# Altium integrated library Analog Devices Operational Amplifiers.IntLib: 2102 symbols (part 11 of 70)
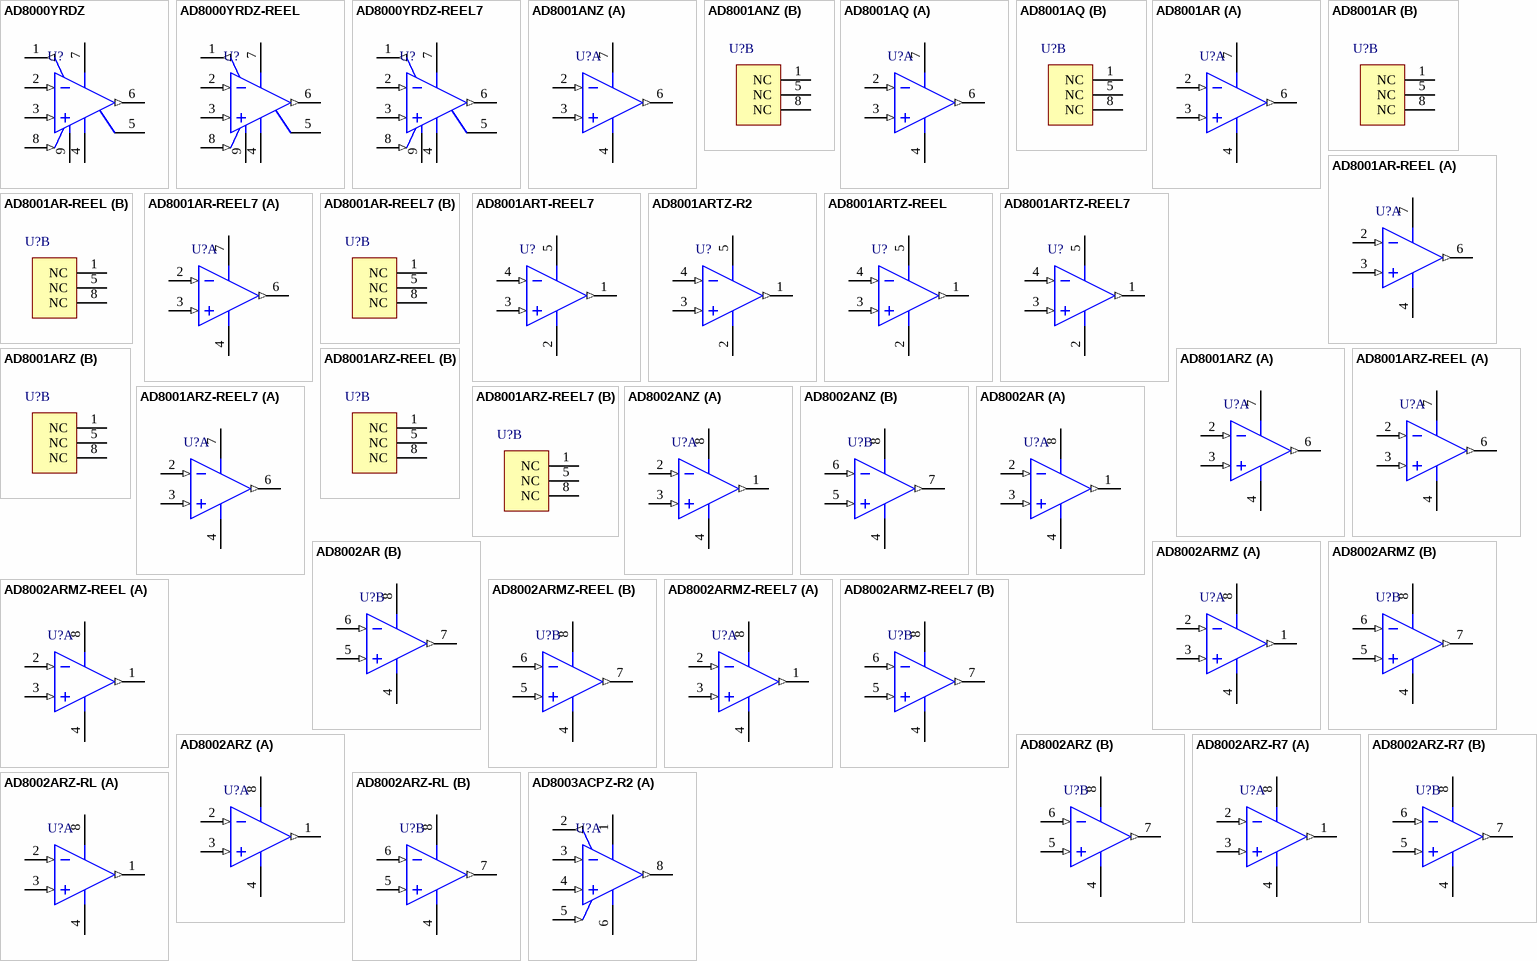
[diagram p124: symbols AD8000YRDZ to AD8003ACPZ-R2]

## AD8002AR
designator U?
Double Channel Low Power Operational Amplifier, 600 MHz BW, 1.2 KV/us SR, Industrial, 8-pin SOIC (R-8), Tube; Generic Part Number: AD8002; Manufacturer: Analog Devices; PartNumber: AD8002AR; Amplifiers Per Package: 2; Input Bias Current: 3uA; Input Offset Voltage: 2mV; Iq/Amp: 11.5mA; Small Signal Bandwidth: 600MHz; V Span Max: 12V; V Span Min: 6V; DatasheetVersion: Rev. D; PackageVersion: 060506-A; PackageReference: R-8; PackageDescription: 8-Pin Standard Small Outline Package, Body 3.9 x 4.9 mm, Pitch 1.27 mm; Supplier 1: Digi-Key; Supplier Part Number 1: AD8002AR-ND; Slew Rate: 1.2KV/us; Mounting Technology: Surface Mount; Code_JEDEC: MS-012-AA; ComponentLink1Description: Manufacturer URL; ComponentLink1URL: http://www.analog.com/en/index.html; ComponentLink2Description: Datasheet; ComponentLink2URL: http://www.analog.com/static/imported-files/data_sheets/AD8002.pdf; ComponentLink3Description: Package Specification; ComponentLink3URL: http://www.analog.com/static/imported-files/packages/PKG_PDF/SOIC_Narrow%20(R)/R_8.pdf
footprint ADI-R-8_N (SOIC, 8-Leads, Body 4.9x3.9mm, Pitch 1.27mm, IPC Medium Density)
footprint ADI-R-8_L (SOIC, 8-Leads, Body 4.9x3.9mm, Pitch 1.27mm, IPC High Density)
footprint ADI-R-8_M (SOIC, 8-Leads, Body 4.9x3.9mm, Pitch 1.27mm, IPC Low Density)
pins on every part: 4 -V (power), 8 +V (power)
part A pins: 1 OUT 1 (out), 2 -IN 1 (in), 3 +IN 1 (in)
part B pins: 5 +IN 2 (in), 6 -IN 2 (in), 7 OUT 2 (out)

## AD8002ARMZ
designator U?
Double Channel Low Power Operational Amplifier, 600 MHz BW, 1.2 KV/us SR, Industrial, 8-pin SOP (RM-8), Tube; Generic Part Number: AD8002; Manufacturer: Analog Devices; PartNumber: AD8002ARMZ; Amplifiers Per Package: 2; Input Bias Current: 3uA; Input Offset Voltage: 2mV; Iq/Amp: 11.5mA; Small Signal Bandwidth: 600MHz; V Span Max: 12V; V Span Min: 6V; DatasheetVersion: Rev. D; PackageReference: RM-8; PackageDescription: 8-Pin Mini Small Outline Package, Body 3 x 3 mm, Pitch 0.65 mm; Supplier 1: Digi-Key; Supplier Part Number 1: AD8002ARMZ-ND; Supplier 2: Newark; Supplier Part Number 2: 59K6140; Slew Rate: 1.2KV/us; Mounting Technology: Surface Mount; Code_JEDEC: MO-187-AA; ComponentLink1Description: Manufacturer URL; ComponentLink1URL: http://www.analog.com/en/index.html; ComponentLink2Description: Datasheet; ComponentLink2URL: http://www.analog.com/static/imported-files/data_sheets/AD8002.pdf; ComponentLink3Description: Package Specification; ComponentLink3URL: http://www.analog.com/static/imported-files/packages/PKG_PDF/MSOP%28RM%29/RM_8.pdf
footprint ADI-RM-8_N (SOP, 8-Leads, Body 3x3mm, Pitch 0.65mm, IPC Medium Density)
footprint ADI-RM-8_L (SOP, 8-Leads, Body 3x3mm, Pitch 0.65mm, IPC High Density)
footprint ADI-RM-8_M (SOP, 8-Leads, Body 3x3mm, Pitch 0.65mm, IPC Low Density)
pins on every part: 4 -V (power), 8 +V (power)
part A pins: 1 OUT 1 (out), 2 -IN 1 (in), 3 +IN 1 (in)
part B pins: 5 +IN 2 (in), 6 -IN 2 (in), 7 OUT 2 (out)

## AD8002ARMZ-REEL
designator U?
Double Channel Low Power Operational Amplifier, 600 MHz BW, 1.2 KV/us SR, Industrial, 8-pin SOP (RM-8), Reel; Generic Part Number: AD8002; Manufacturer: Analog Devices; PartNumber: AD8002ARMZ-REEL; Amplifiers Per Package: 2; Input Bias Current: 3uA; Input Offset Voltage: 2mV; Iq/Amp: 11.5mA; Small Signal Bandwidth: 600MHz; V Span Max: 12V; V Span Min: 6V; DatasheetVersion: Rev. D; PackageReference: RM-8; PackageDescription: 8-Pin Mini Small Outline Package, Body 3 x 3 mm, Pitch 0.65 mm; Supplier 1: Digi-Key; Supplier Part Number 1: AD8002ARMZ-REEL-ND; Supplier 2: Newark; Supplier Part Number 2: 59K6141; Slew Rate: 1.2KV/us; Mounting Technology: Surface Mount; Code_JEDEC: MO-187-AA; ComponentLink1Description: Manufacturer URL; ComponentLink1URL: http://www.analog.com/en/index.html; ComponentLink2Description: Datasheet; ComponentLink2URL: http://www.analog.com/static/imported-files/data_sheets/AD8002.pdf; ComponentLink3Description: Package Specification; ComponentLink3URL: http://www.analog.com/static/imported-files/packages/PKG_PDF/MSOP%28RM%29/RM_8.pdf
footprint ADI-RM-8_N (SOP, 8-Leads, Body 3x3mm, Pitch 0.65mm, IPC Medium Density)
footprint ADI-RM-8_L (SOP, 8-Leads, Body 3x3mm, Pitch 0.65mm, IPC High Density)
footprint ADI-RM-8_M (SOP, 8-Leads, Body 3x3mm, Pitch 0.65mm, IPC Low Density)
pins on every part: 4 -V (power), 8 +V (power)
part A pins: 1 OUT 1 (out), 2 -IN 1 (in), 3 +IN 1 (in)
part B pins: 5 +IN 2 (in), 6 -IN 2 (in), 7 OUT 2 (out)

## AD8002ARMZ-REEL7
designator U?
Double Channel Low Power Operational Amplifier, 600 MHz BW, 1.2 KV/us SR, Industrial, 8-pin SOP (RM-8), Reel; Generic Part Number: AD8002; Manufacturer: Analog Devices; PartNumber: AD8002ARMZ-REEL7; Amplifiers Per Package: 2; Input Bias Current: 3uA; Input Offset Voltage: 2mV; Iq/Amp: 11.5mA; Small Signal Bandwidth: 600MHz; V Span Max: 12V; V Span Min: 6V; DatasheetVersion: Rev. D; PackageReference: RM-8; PackageDescription: 8-Pin Mini Small Outline Package, Body 3 x 3 mm, Pitch 0.65 mm; Supplier 1: Digi-Key; Supplier Part Number 1: AD8002ARMZ-REEL7-ND; Supplier 2: Newark; Supplier Part Number 2: 59K6142; Slew Rate: 1.2KV/us; Mounting Technology: Surface Mount; Code_JEDEC: MO-187-AA; ComponentLink1Description: Manufacturer URL; ComponentLink1URL: http://www.analog.com/en/index.html; ComponentLink2Description: Datasheet; ComponentLink2URL: http://www.analog.com/static/imported-files/data_sheets/AD8002.pdf; ComponentLink3Description: Package Specification; ComponentLink3URL: http://www.analog.com/static/imported-files/packages/PKG_PDF/MSOP%28RM%29/RM_8.pdf
footprint ADI-RM-8_N (SOP, 8-Leads, Body 3x3mm, Pitch 0.65mm, IPC Medium Density)
footprint ADI-RM-8_L (SOP, 8-Leads, Body 3x3mm, Pitch 0.65mm, IPC High Density)
footprint ADI-RM-8_M (SOP, 8-Leads, Body 3x3mm, Pitch 0.65mm, IPC Low Density)
pins on every part: 4 -V (power), 8 +V (power)
part A pins: 1 OUT 1 (out), 2 -IN 1 (in), 3 +IN 1 (in)
part B pins: 5 +IN 2 (in), 6 -IN 2 (in), 7 OUT 2 (out)

## AD8002ARZ
designator U?
Double Channel Low Power Operational Amplifier, 600 MHz BW, 1.2 KV/us SR, Industrial, 8-pin SOIC (R-8), Tube; Generic Part Number: AD8002; Manufacturer: Analog Devices; PartNumber: AD8002ARZ; Amplifiers Per Package: 2; Input Bias Current: 3uA; Input Offset Voltage: 2mV; Iq/Amp: 11.5mA; Small Signal Bandwidth: 600MHz; V Span Max: 12V; V Span Min: 6V; DatasheetVersion: Rev. D; PackageVersion: 060506-A; PackageReference: R-8; PackageDescription: 8-Pin Standard Small Outline Package, Body 3.9 x 4.9 mm, Pitch 1.27 mm; Supplier 1: Digi-Key; Supplier Part Number 1: AD8002ARZ-ND; Supplier 2: Farnell; Supplier Part Number 2: 1814349; Supplier 3: Newark; Supplier Part Number 3: 19M8867; Slew Rate: 1.2KV/us; Mounting Technology: Surface Mount; Code_JEDEC: MS-012-AA; ComponentLink1Description: Manufacturer URL; ComponentLink1URL: http://www.analog.com/en/index.html; ComponentLink2Description: Datasheet; ComponentLink2URL: http://www.analog.com/static/imported-files/data_sheets/AD8002.pdf; ComponentLink3Description: Package Specification; ComponentLink3URL: http://www.analog.com/static/imported-files/packages/PKG_PDF/SOIC_Narrow%20(R)/R_8.pdf
footprint ADI-R-8_N (SOIC, 8-Leads, Body 4.9x3.9mm, Pitch 1.27mm, IPC Medium Density)
footprint ADI-R-8_L (SOIC, 8-Leads, Body 4.9x3.9mm, Pitch 1.27mm, IPC High Density)
footprint ADI-R-8_M (SOIC, 8-Leads, Body 4.9x3.9mm, Pitch 1.27mm, IPC Low Density)
pins on every part: 4 -V (power), 8 +V (power)
part A pins: 1 OUT 1 (out), 2 -IN 1 (in), 3 +IN 1 (in)
part B pins: 5 +IN 2 (in), 6 -IN 2 (in), 7 OUT 2 (out)

## AD8002ARZ-R7
designator U?
Double Channel Low Power Operational Amplifier, 600 MHz BW, 1.2 KV/us SR, Industrial, 8-pin SOIC (R-8), Reel; Generic Part Number: AD8002; Manufacturer: Analog Devices; PartNumber: AD8002ARZ-R7; Amplifiers Per Package: 2; Input Bias Current: 3uA; Input Offset Voltage: 2mV; Iq/Amp: 11.5mA; Small Signal Bandwidth: 600MHz; V Span Max: 12V; V Span Min: 6V; DatasheetVersion: Rev. D; PackageVersion: 060506-A; PackageReference: R-8; PackageDescription: 8-Pin Standard Small Outline Package, Body 3.9 x 4.9 mm, Pitch 1.27 mm; Supplier 1: Digi-Key; Supplier Part Number 1: AD8002ARZ-R7-ND; Supplier 2: Newark; Supplier Part Number 2: 59K6145; Slew Rate: 1.2KV/us; Mounting Technology: Surface Mount; Code_JEDEC: MS-012-AA; ComponentLink1Description: Manufacturer URL; ComponentLink1URL: http://www.analog.com/en/index.html; ComponentLink2Description: Datasheet; ComponentLink2URL: http://www.analog.com/static/imported-files/data_sheets/AD8002.pdf; ComponentLink3Description: Package Specification; ComponentLink3URL: http://www.analog.com/static/imported-files/packages/PKG_PDF/SOIC_Narrow%20(R)/R_8.pdf
footprint ADI-R-8_N (SOIC, 8-Leads, Body 4.9x3.9mm, Pitch 1.27mm, IPC Medium Density)
footprint ADI-R-8_L (SOIC, 8-Leads, Body 4.9x3.9mm, Pitch 1.27mm, IPC High Density)
footprint ADI-R-8_M (SOIC, 8-Leads, Body 4.9x3.9mm, Pitch 1.27mm, IPC Low Density)
pins on every part: 4 -V (power), 8 +V (power)
part A pins: 1 OUT 1 (out), 2 -IN 1 (in), 3 +IN 1 (in)
part B pins: 5 +IN 2 (in), 6 -IN 2 (in), 7 OUT 2 (out)

## AD8002ARZ-RL
designator U?
Double Channel Low Power Operational Amplifier, 600 MHz BW, 1.2 KV/us SR, Industrial, 8-pin SOIC (R-8), Reel; Generic Part Number: AD8002; Manufacturer: Analog Devices; PartNumber: AD8002ARZ-RL; Amplifiers Per Package: 2; Input Bias Current: 3uA; Input Offset Voltage: 2mV; Iq/Amp: 11.5mA; Small Signal Bandwidth: 600MHz; V Span Max: 12V; V Span Min: 6V; DatasheetVersion: Rev. D; PackageVersion: 060506-A; PackageReference: R-8; PackageDescription: 8-Pin Standard Small Outline Package, Body 3.9 x 4.9 mm, Pitch 1.27 mm; Supplier 1: Digi-Key; Supplier Part Number 1: AD8002ARZ-RL-ND; Supplier 2: Newark; Supplier Part Number 2: 59K6144; Slew Rate: 1.2KV/us; Mounting Technology: Surface Mount; Code_JEDEC: MS-012-AA; ComponentLink1Description: Manufacturer URL; ComponentLink1URL: http://www.analog.com/en/index.html; ComponentLink2Description: Datasheet; ComponentLink2URL: http://www.analog.com/static/imported-files/data_sheets/AD8002.pdf; ComponentLink3Description: Package Specification; ComponentLink3URL: http://www.analog.com/static/imported-files/packages/PKG_PDF/SOIC_Narrow%20(R)/R_8.pdf
footprint ADI-R-8_N (SOIC, 8-Leads, Body 4.9x3.9mm, Pitch 1.27mm, IPC Medium Density)
footprint ADI-R-8_L (SOIC, 8-Leads, Body 4.9x3.9mm, Pitch 1.27mm, IPC High Density)
footprint ADI-R-8_M (SOIC, 8-Leads, Body 4.9x3.9mm, Pitch 1.27mm, IPC Low Density)
pins on every part: 4 -V (power), 8 +V (power)
part A pins: 1 OUT 1 (out), 2 -IN 1 (in), 3 +IN 1 (in)
part B pins: 5 +IN 2 (in), 6 -IN 2 (in), 7 OUT 2 (out)

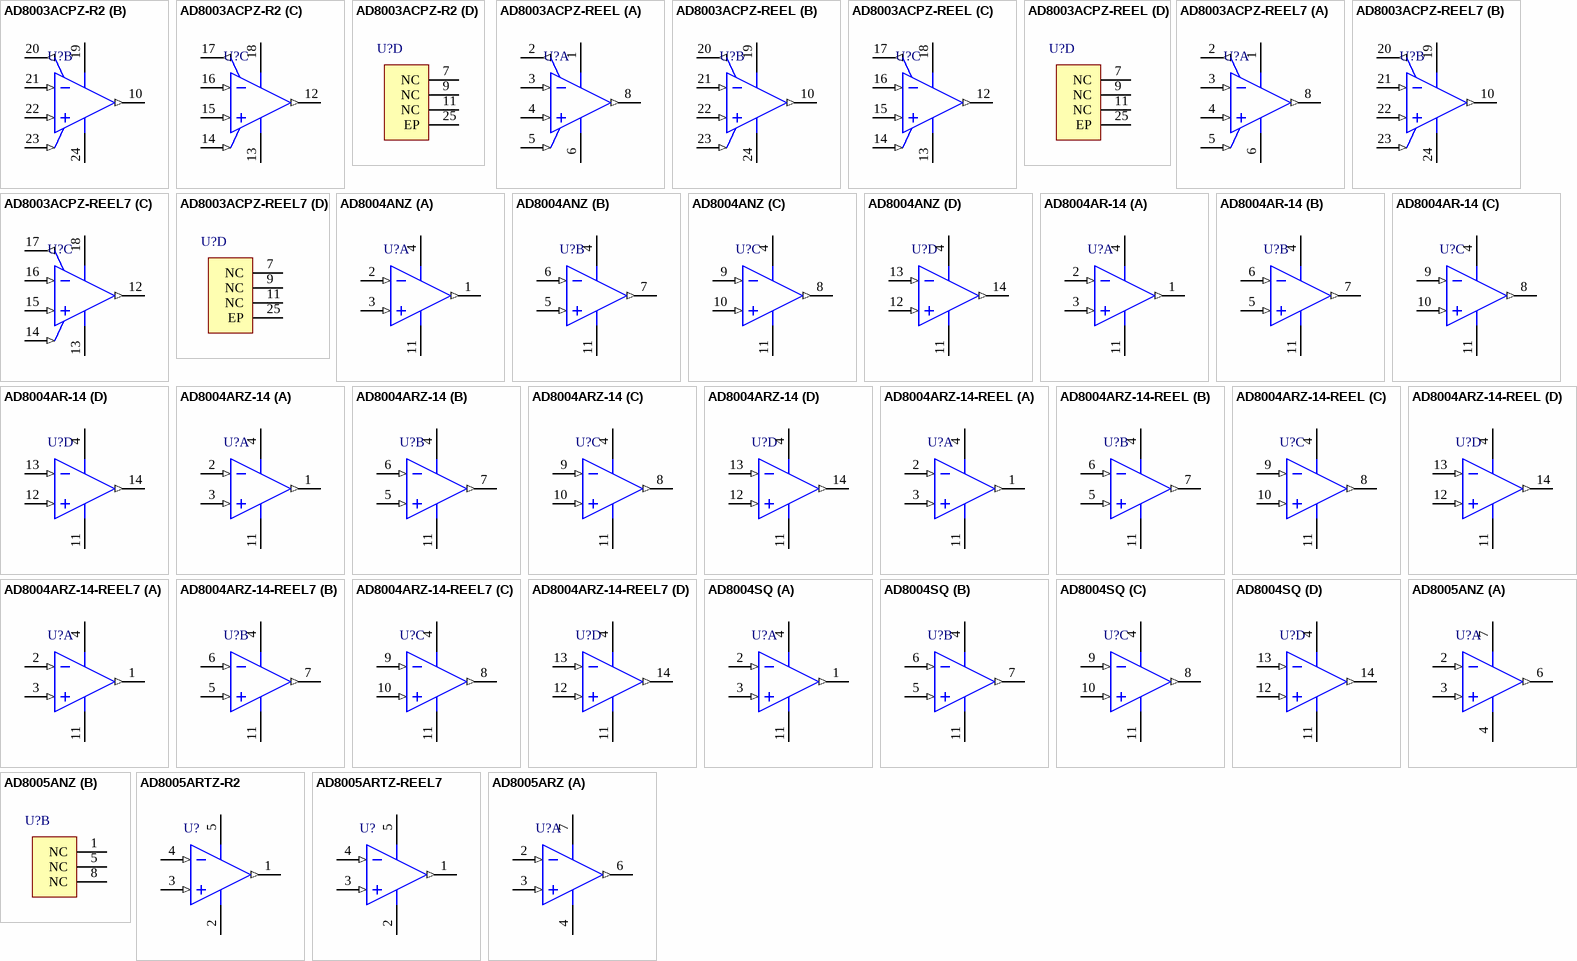
[diagram p16: symbols AD8003ACPZ-R2 to AD8005ARZ]

## AD8003ACPZ-R2
designator U?
3 Channel Wide Bandwidth Operational Amplifier, 1.65 GHz BW, 3.8 KV/us SR, Industrial, 24-pin QFN (CP-24-1), Tube; Generic Part Number: AD8003; Manufacturer: Analog Devices; PartNumber: AD8003ACPZ-R2; Amplifiers Per Package: 3; Input Bias Current: 7uA; Input Offset Voltage: 700uV; Iq/Amp: 10.2mA; V Span Max: 10V; V Span Min: 4.5V; DatasheetVersion: Rev. B; PackageReference: CP-24-1; PackageDescription: 24-Pin Lead Frame Chip Scale Package, Body 4 x 4 mm, Pitch 0.5 mm; Supplier 1: Farnell; Supplier Part Number 1: 2074878; Supplier 2: Newark; Supplier Part Number 2: 76T1818; Slew Rate: 3.8KV/us; Small Signal Bandwidth: 1.65GHz; Mounting Technology: Surface Mount; Code_JEDEC: MO-220-VGGD-2; ComponentLink1Description: Manufacturer URL; ComponentLink1URL: http://www.analog.com/en/index.html; ComponentLink2Description: Datasheet; ComponentLink2URL: http://www.analog.com/static/imported-files/data_sheets/AD8003.pdf; ComponentLink3Description: Package Specification; ComponentLink3URL: http://www.analog.com/static/imported-files/packages/CP_24_1.pdf
footprint ADI-CP-24-1_N (QFN, 24-Leads, Body 4x4mm, Pitch 0.5mm, Thermal Pad 2.1x2.1mm, IPC Medium Density)
footprint ADI-CP-24-1_L (QFN, 24-Leads, Body 4x4mm, Pitch 0.5mm, Thermal Pad 2.1x2.1mm, IPC High Density)
footprint ADI-CP-24-1_M (QFN, 24-Leads, Body 4x4mm, Pitch 0.5mm, Thermal Pad 2.1x2.1mm, IPC Low Density)
part A pins: 1 +VS 1 (power), 2 FEEDBACK 1 (out), 3 -IN 1 (in), 4 +IN 1 (in), 5 POWER DOWN 1 (in), 6 -VS 1 (power), 8 OUT 1 (out)
part B pins: 10 OUT 2 (out), 19 +VS 2 (power), 20 FEEDBACK 2 (out), 21 -IN 2 (in), 22 +IN 2 (in), 23 POWER DOWN 2 (in), 24 -VS 2 (power)
part C pins: 12 OUT 3 (out), 13 -VS 3 (power), 14 POWER DOWN 3 (in), 15 +IN 3 (in), 16 -IN 3 (in), 17 FEEDBACK 3 (out), 18 +VS 3 (power)
part D pins: 7 NC, 9 NC, 11 NC, 25 EP

## AD8003ACPZ-REEL
designator U?
3 Channel Wide Bandwidth Operational Amplifier, 1.65 GHz BW, 3.8 KV/us SR, Industrial, 24-pin QFN (CP-24-1), Reel; Generic Part Number: AD8003; Manufacturer: Analog Devices; PartNumber: AD8003ACPZ-REEL; Amplifiers Per Package: 3; Input Bias Current: 7uA; Input Offset Voltage: 700uV; Iq/Amp: 10.2mA; V Span Max: 10V; V Span Min: 4.5V; DatasheetVersion: Rev. B; PackageReference: CP-24-1; PackageDescription: 24-Pin Lead Frame Chip Scale Package, Body 4 x 4 mm, Pitch 0.5 mm; Supplier 1: Digi-Key; Supplier Part Number 1: AD8003ACPZ-REEL-ND; Supplier 2: Newark; Supplier Part Number 2: 12M9022; Slew Rate: 3.8KV/us; Small Signal Bandwidth: 1.65GHz; Mounting Technology: Surface Mount; Code_JEDEC: MO-220-VGGD-2; ComponentLink1Description: Manufacturer URL; ComponentLink1URL: http://www.analog.com/en/index.html; ComponentLink2Description: Datasheet; ComponentLink2URL: http://www.analog.com/static/imported-files/data_sheets/AD8003.pdf; ComponentLink3Description: Package Specification; ComponentLink3URL: http://www.analog.com/static/imported-files/packages/CP_24_1.pdf
footprint ADI-CP-24-1_N (QFN, 24-Leads, Body 4x4mm, Pitch 0.5mm, Thermal Pad 2.1x2.1mm, IPC Medium Density)
footprint ADI-CP-24-1_L (QFN, 24-Leads, Body 4x4mm, Pitch 0.5mm, Thermal Pad 2.1x2.1mm, IPC High Density)
footprint ADI-CP-24-1_M (QFN, 24-Leads, Body 4x4mm, Pitch 0.5mm, Thermal Pad 2.1x2.1mm, IPC Low Density)
part A pins: 1 +VS 1 (power), 2 FEEDBACK 1 (out), 3 -IN 1 (in), 4 +IN 1 (in), 5 POWER DOWN 1 (in), 6 -VS 1 (power), 8 OUT 1 (out)
part B pins: 10 OUT 2 (out), 19 +VS 2 (power), 20 FEEDBACK 2 (out), 21 -IN 2 (in), 22 +IN 2 (in), 23 POWER DOWN 2 (in), 24 -VS 2 (power)
part C pins: 12 OUT 3 (out), 13 -VS 3 (power), 14 POWER DOWN 3 (in), 15 +IN 3 (in), 16 -IN 3 (in), 17 FEEDBACK 3 (out), 18 +VS 3 (power)
part D pins: 7 NC, 9 NC, 11 NC, 25 EP

## AD8003ACPZ-REEL7
designator U?
3 Channel Wide Bandwidth Operational Amplifier, 1.65 GHz BW, 3.8 KV/us SR, Industrial, 24-pin QFN (CP-24-1), Reel; Generic Part Number: AD8003; Manufacturer: Analog Devices; PartNumber: AD8003ACPZ-REEL7; Amplifiers Per Package: 3; Input Bias Current: 7uA; Input Offset Voltage: 700uV; Iq/Amp: 10.2mA; V Span Max: 10V; V Span Min: 4.5V; DatasheetVersion: Rev. B; PackageReference: CP-24-1; PackageDescription: 24-Pin Lead Frame Chip Scale Package, Body 4 x 4 mm, Pitch 0.5 mm; Supplier 1: Digi-Key; Supplier Part Number 1: AD8003ACPZ-REEL7TR-ND; Supplier 2: Digi-Key; Supplier Part Number 2: AD8003ACPZ-REEL7CT-ND; Supplier 3: Digi-Key; Supplier Part Number 3: AD8003ACPZ-REEL7DKR-ND; Supplier 4: Newark; Supplier Part Number 4: 12M9023; Slew Rate: 3.8KV/us; Small Signal Bandwidth: 1.65GHz; Mounting Technology: Surface Mount; Code_JEDEC: MO-220-VGGD-2; ComponentLink1Description: Manufacturer URL; ComponentLink1URL: http://www.analog.com/en/index.html; ComponentLink2Description: Datasheet; ComponentLink2URL: http://www.analog.com/static/imported-files/data_sheets/AD8003.pdf; ComponentLink3Description: Package Specification; ComponentLink3URL: http://www.analog.com/static/imported-files/packages/CP_24_1.pdf
footprint ADI-CP-24-1_N (QFN, 24-Leads, Body 4x4mm, Pitch 0.5mm, Thermal Pad 2.1x2.1mm, IPC Medium Density)
footprint ADI-CP-24-1_L (QFN, 24-Leads, Body 4x4mm, Pitch 0.5mm, Thermal Pad 2.1x2.1mm, IPC High Density)
footprint ADI-CP-24-1_M (QFN, 24-Leads, Body 4x4mm, Pitch 0.5mm, Thermal Pad 2.1x2.1mm, IPC Low Density)
part A pins: 1 +VS 1 (power), 2 FEEDBACK 1 (out), 3 -IN 1 (in), 4 +IN 1 (in), 5 POWER DOWN 1 (in), 6 -VS 1 (power), 8 OUT 1 (out)
part B pins: 10 OUT 2 (out), 19 +VS 2 (power), 20 FEEDBACK 2 (out), 21 -IN 2 (in), 22 +IN 2 (in), 23 POWER DOWN 2 (in), 24 -VS 2 (power)
part C pins: 12 OUT 3 (out), 13 -VS 3 (power), 14 POWER DOWN 3 (in), 15 +IN 3 (in), 16 -IN 3 (in), 17 FEEDBACK 3 (out), 18 +VS 3 (power)
part D pins: 7 NC, 9 NC, 11 NC, 25 EP

## AD8004ANZ
designator U?
Quad Channel Single-Supply Operation Operational Amplifier, 250 MHz BW, 3 KV/us SR, Industrial, 14-pin DIP (N-14), Tube; Generic Part Number: AD8004; Manufacturer: Analog Devices; PartNumber: AD8004ANZ; Amplifiers Per Package: 4; Input Bias Current: 35uA; Input Offset Voltage: 1mV; Iq/Amp: 4.25mA; Slew Rate: 3KV/us; Small Signal Bandwidth: 250MHz; V Span Max: 12V; V Span Min: 4V; DatasheetVersion: Rev. C; PackageVersion: 070606-A; PackageReference: N-14; PackageDescription: 14-Pin Plastic Dual In-Line Package, Row spacing 7.62 mm, Pitch 2.54 mm; Supplier 1: Digi-Key; Supplier Part Number 1: AD8004ANZ-ND; Supplier 2: Newark; Supplier Part Number 2: 59K6146; Mounting Technology: Through Hole; Code_JEDEC: MS-001; ComponentLink1Description: Manufacturer URL; ComponentLink1URL: http://www.analog.com/en/index.html; ComponentLink2Description: Datasheet; ComponentLink2URL: http://www.analog.com/static/imported-files/data_sheets/AD8004.pdf; ComponentLink3Description: Package Specification; ComponentLink3URL: http://www.analog.com/static/imported-files/packages/N_14.pdf
footprint ADI-N-14 (DIP, 14-Leads, Body 19.18x6.605mm, Pitch 2.54mm)
pins on every part: 4 +VS (power), 11 -VS (power)
part A pins: 1 OUT (out), 2 -IN (in), 3 +IN (in)
part B pins: 5 +IN (in), 6 -IN (in), 7 OUT (out)
part C pins: 8 OUT (out), 9 -IN (in), 10 +IN (in)
part D pins: 12 +IN (in), 13 -IN (in), 14 OUT (out)

## AD8004AR-14
designator U?
Quad Channel Single-Supply Operation Operational Amplifier, 250 MHz BW, 3 KV/us SR, Industrial, 14-pin SOIC (R-14), Tube; Generic Part Number: AD8004; Manufacturer: Analog Devices; PartNumber: AD8004AR-14; Amplifiers Per Package: 4; Input Bias Current: 35uA; Input Offset Voltage: 1mV; Iq/Amp: 4.25mA; Slew Rate: 3KV/us; Small Signal Bandwidth: 250MHz; V Span Max: 12V; V Span Min: 4V; DatasheetVersion: Rev. C; PackageVersion: 060606-A; PackageReference: R-14; PackageDescription: 14-Pin Standard Small Outline Package, Body 8.65 x 3.9 mm, Pitch 1.27 mm; Supplier 1: Digi-Key; Supplier Part Number 1: AD8004AR-14-ND; Supplier 2: Newark; Supplier Part Number 2: 52F8030; Mounting Technology: Surface Mount; Code_JEDEC: MS-012-AB; ComponentLink1Description: Manufacturer URL; ComponentLink1URL: http://www.analog.com/en/index.html; ComponentLink2Description: Datasheet; ComponentLink2URL: http://www.analog.com/static/imported-files/data_sheets/AD8004.pdf; ComponentLink3Description: Package Specification; ComponentLink3URL: http://www.analog.com/static/imported-files/packages/PKG_PDF/SOIC_Narrow%20(R)/R_14.pdf
footprint ADI-R-14_N (SOIC, 14-Leads, Body 8.65x3.9mm, Pitch 1.27mm, IPC Medium Density)
footprint ADI-R-14_L (SOIC, 14-Leads, Body 8.65x3.9mm, Pitch 1.27mm, IPC High Density)
footprint ADI-R-14_M (SOIC, 14-Leads, Body 8.65x3.9mm, Pitch 1.27mm, IPC Low Density)
pins on every part: 4 +VS (power), 11 -VS (power)
part A pins: 1 OUT (out), 2 -IN (in), 3 +IN (in)
part B pins: 5 +IN (in), 6 -IN (in), 7 OUT (out)
part C pins: 8 OUT (out), 9 -IN (in), 10 +IN (in)
part D pins: 12 +IN (in), 13 -IN (in), 14 OUT (out)

## AD8004ARZ-14
designator U?
Quad Channel Single-Supply Operation Operational Amplifier, 250 MHz BW, 3 KV/us SR, Industrial, 14-pin SOIC (R-14), Tube; Generic Part Number: AD8004; Manufacturer: Analog Devices; PartNumber: AD8004ARZ-14; Amplifiers Per Package: 4; Input Bias Current: 35uA; Input Offset Voltage: 1mV; Iq/Amp: 4.25mA; Slew Rate: 3KV/us; Small Signal Bandwidth: 250MHz; V Span Max: 12V; V Span Min: 4V; DatasheetVersion: Rev. C; PackageVersion: 060606-A; PackageReference: R-14; PackageDescription: 14-Pin Standard Small Outline Package, Body 8.65 x 3.9 mm, Pitch 1.27 mm; Supplier 1: Digi-Key; Supplier Part Number 1: AD8004ARZ-14-ND; Supplier 2: Newark; Supplier Part Number 2: 59K6147; Mounting Technology: Surface Mount; Code_JEDEC: MS-012-AB; ComponentLink1Description: Manufacturer URL; ComponentLink1URL: http://www.analog.com/en/index.html; ComponentLink2Description: Datasheet; ComponentLink2URL: http://www.analog.com/static/imported-files/data_sheets/AD8004.pdf; ComponentLink3Description: Package Specification; ComponentLink3URL: http://www.analog.com/static/imported-files/packages/PKG_PDF/SOIC_Narrow%20(R)/R_14.pdf
footprint ADI-R-14_N (SOIC, 14-Leads, Body 8.65x3.9mm, Pitch 1.27mm, IPC Medium Density)
footprint ADI-R-14_L (SOIC, 14-Leads, Body 8.65x3.9mm, Pitch 1.27mm, IPC High Density)
footprint ADI-R-14_M (SOIC, 14-Leads, Body 8.65x3.9mm, Pitch 1.27mm, IPC Low Density)
pins on every part: 4 +VS (power), 11 -VS (power)
part A pins: 1 OUT (out), 2 -IN (in), 3 +IN (in)
part B pins: 5 +IN (in), 6 -IN (in), 7 OUT (out)
part C pins: 8 OUT (out), 9 -IN (in), 10 +IN (in)
part D pins: 12 +IN (in), 13 -IN (in), 14 OUT (out)

## AD8004ARZ-14-REEL
designator U?
Quad Channel Single-Supply Operation Operational Amplifier, 250 MHz BW, 3 KV/us SR, Industrial, 14-pin SOIC (R-14), Reel; Generic Part Number: AD8004; Manufacturer: Analog Devices; PartNumber: AD8004ARZ-14-REEL; Amplifiers Per Package: 4; Input Bias Current: 35uA; Input Offset Voltage: 1mV; Iq/Amp: 4.25mA; Slew Rate: 3KV/us; Small Signal Bandwidth: 250MHz; V Span Max: 12V; V Span Min: 4V; DatasheetVersion: Rev. C; PackageVersion: 060606-A; PackageReference: R-14; PackageDescription: 14-Pin Standard Small Outline Package, Body 8.65 x 3.9 mm, Pitch 1.27 mm; Supplier 1: Digi-Key; Supplier Part Number 1: AD8004ARZ-14-REEL-ND; Mounting Technology: Surface Mount; Code_JEDEC: MS-012-AB; ComponentLink1Description: Manufacturer URL; ComponentLink1URL: http://www.analog.com/en/index.html; ComponentLink2Description: Datasheet; ComponentLink2URL: http://www.analog.com/static/imported-files/data_sheets/AD8004.pdf; ComponentLink3Description: Package Specification; ComponentLink3URL: http://www.analog.com/static/imported-files/packages/PKG_PDF/SOIC_Narrow%20(R)/R_14.pdf
footprint ADI-R-14_N (SOIC, 14-Leads, Body 8.65x3.9mm, Pitch 1.27mm, IPC Medium Density)
footprint ADI-R-14_L (SOIC, 14-Leads, Body 8.65x3.9mm, Pitch 1.27mm, IPC High Density)
footprint ADI-R-14_M (SOIC, 14-Leads, Body 8.65x3.9mm, Pitch 1.27mm, IPC Low Density)
pins on every part: 4 +VS (power), 11 -VS (power)
part A pins: 1 OUT (out), 2 -IN (in), 3 +IN (in)
part B pins: 5 +IN (in), 6 -IN (in), 7 OUT (out)
part C pins: 8 OUT (out), 9 -IN (in), 10 +IN (in)
part D pins: 12 +IN (in), 13 -IN (in), 14 OUT (out)

## AD8004ARZ-14-REEL7
designator U?
Quad Channel Single-Supply Operation Operational Amplifier, 250 MHz BW, 3 KV/us SR, Industrial, 14-pin SOIC (R-14), Reel; Generic Part Number: AD8004; Manufacturer: Analog Devices; PartNumber: AD8004ARZ-14-REEL7; Amplifiers Per Package: 4; Input Bias Current: 35uA; Input Offset Voltage: 1mV; Iq/Amp: 4.25mA; Slew Rate: 3KV/us; Small Signal Bandwidth: 250MHz; V Span Max: 12V; V Span Min: 4V; DatasheetVersion: Rev. C; PackageVersion: 060606-A; PackageReference: R-14; PackageDescription: 14-Pin Standard Small Outline Package, Body 8.65 x 3.9 mm, Pitch 1.27 mm; Supplier 1: Digi-Key; Supplier Part Number 1: AD8004ARZ-14-REEL7-ND; Mounting Technology: Surface Mount; Code_JEDEC: MS-012-AB; ComponentLink1Description: Manufacturer URL; ComponentLink1URL: http://www.analog.com/en/index.html; ComponentLink2Description: Datasheet; ComponentLink2URL: http://www.analog.com/static/imported-files/data_sheets/AD8004.pdf; ComponentLink3Description: Package Specification; ComponentLink3URL: http://www.analog.com/static/imported-files/packages/PKG_PDF/SOIC_Narrow%20(R)/R_14.pdf
footprint ADI-R-14_N (SOIC, 14-Leads, Body 8.65x3.9mm, Pitch 1.27mm, IPC Medium Density)
footprint ADI-R-14_L (SOIC, 14-Leads, Body 8.65x3.9mm, Pitch 1.27mm, IPC High Density)
footprint ADI-R-14_M (SOIC, 14-Leads, Body 8.65x3.9mm, Pitch 1.27mm, IPC Low Density)
pins on every part: 4 +VS (power), 11 -VS (power)
part A pins: 1 OUT (out), 2 -IN (in), 3 +IN (in)
part B pins: 5 +IN (in), 6 -IN (in), 7 OUT (out)
part C pins: 8 OUT (out), 9 -IN (in), 10 +IN (in)
part D pins: 12 +IN (in), 13 -IN (in), 14 OUT (out)

## AD8004SQ
designator U?
Quad Channel Single-Supply Operation Operational Amplifier, 250 MHz BW, 3 KV/us SR, Military, 14-pin DIP (Q-14), Tube; Generic Part Number: AD8004; Manufacturer: Analog Devices; PartNumber: AD8004SQ; Amplifiers Per Package: 4; Input Bias Current: 35uA; Input Offset Voltage: 1mV; Iq/Amp: 4.25mA; Slew Rate: 3KV/us; Small Signal Bandwidth: 250MHz; V Span Max: 12V; V Span Min: 4V; DatasheetVersion: Rev. C; PackageReference: Q-14; PackageDescription: 14-Pin Ceramic Dual In-Line Package, Row spacing 7.62 mm, Pitch 2.54 mm; Supplier 1: Digi-Key; Supplier Part Number 1: AD8004SQ-ND; Mounting Technology: Through Hole; ComponentLink1Description: Manufacturer URL; ComponentLink1URL: http://www.analog.com/en/index.html; ComponentLink2Description: Datasheet; ComponentLink2URL: http://www.analog.com/static/imported-files/data_sheets/AD8004.pdf; ComponentLink3Description: Package Specification; ComponentLink3URL: http://www.analog.com/static/imported-files/packages/393665681442905251546090Q_14.pdf
footprint ADI-Q-14 (DIP, 14-Leads, Body 19.94x6.73mm, Pitch 2.54mm)
pins on every part: 4 +VS (power), 11 -VS (power)
part A pins: 1 OUT (out), 2 -IN (in), 3 +IN (in)
part B pins: 5 +IN (in), 6 -IN (in), 7 OUT (out)
part C pins: 8 OUT (out), 9 -IN (in), 10 +IN (in)
part D pins: 12 +IN (in), 13 -IN (in), 14 OUT (out)

## AD8005ANZ
designator U?
Single Channel Low Distortion Operational Amplifier, 270 MHz BW, 1.5 KV/us SR, Industrial, 8-pin DIP (N-8), Tube; Generic Part Number: AD8005; Manufacturer: Analog Devices; PartNumber: AD8005ANZ; Amplifiers Per Package: 1; Input Bias Current: 500nA; Input Offset Voltage: 5mV; Iq/Amp: 425uA; Small Signal Bandwidth: 270MHz; V Span Max: 12V; V Span Min: 4V; DatasheetVersion: Rev. A; PackageVersion: 070606-A; PackageReference: N-8; PackageDescription: 8-Pin Plastic Dual In-Line Package, Row spacing 7.62 mm, Pitch 2.54 mm; Supplier 1: Digi-Key; Supplier Part Number 1: AD8005ANZ-ND; Packing: Tube; Slew Rate: 1.5KV/us; Mounting Technology: Through Hole; Code_JEDEC: MS-001; ComponentLink1Description: Manufacturer URL; ComponentLink1URL: http://www.analog.com/en/index.html; ComponentLink2Description: Datasheet; ComponentLink2URL: http://www.analog.com/static/imported-files/data_sheets/AD8005.pdf; ComponentLink3Description: Package Specification; ComponentLink3URL: http:/www.analog.com/static/imported-files/packages/PKG_PDF/PDIP(N)/N_8.pdf
footprint ADI-N-8 (DIP, 8-Leads, Body 9.59x6.6mm, Pitch 2.54mm)
part A pins: 2 -IN (in), 3 +IN (in), 4 -VS (power), 6 OUT (out), 7 +VS (power)
part B pins: 1 NC, 5 NC, 8 NC

## AD8005ARTZ-R2
designator U?
Single Channel Low Distortion Operational Amplifier, 270 MHz BW, 1.5 KV/us SR, Industrial, 5-pin SOT23 (RJ-5), Reel; Generic Part Number: AD8005; Manufacturer: Analog Devices; PartNumber: AD8005ARTZ-R2; Amplifiers Per Package: 1; Input Bias Current: 500nA; Input Offset Voltage: 5mV; Iq/Amp: 425uA; Small Signal Bandwidth: 270MHz; V Span Max: 12V; V Span Min: 4V; DatasheetVersion: Rev. A; PackageVersion: 121608-A; PackageReference: RJ-5; PackageDescription: 5-Pin Small Outline Transistor Package, Body 2.9 x 1.6 mm, Pitch 0.95 mm; Packing: Reel; Slew Rate: 1.5KV/us; Mounting Technology: Surface Mount; Code_JEDEC: MO-178-AA; ComponentLink1Description: Manufacturer URL; ComponentLink1URL: http://www.analog.com/en/index.html; ComponentLink2Description: Datasheet; ComponentLink2URL: http://www.analog.com/static/imported-files/data_sheets/AD8005.pdf; ComponentLink3Description: Package Specification; ComponentLink3URL: http://www.analog.com/static/imported-files/packages/PKG_PDF/SOT-23(RJ)/RJ_5.pdf
footprint ADI-RJ-5_N (SOT-23, 5-Leads, Body 2.9x1.6mm, Pitch 0.95mm, IPC Medium Density)
footprint ADI-RJ-5_L (SOT-23, 5-Leads, Body 2.9x1.6mm, Pitch 0.95mm, IPC High Density)
footprint ADI-RJ-5_M (SOT-23, 5-Leads, Body 2.9x1.6mm, Pitch 0.95mm, IPC Low Density)
pins: 1 OUT (out), 2 -VS (power), 3 +IN (in), 4 -IN (in), 5 +VS (power)

## AD8005ARTZ-REEL7
designator U?
Single Channel Low Distortion Operational Amplifier, 270 MHz BW, 1.5 KV/us SR, Industrial, 5-pin SOT23 (RJ-5), Reel; Generic Part Number: AD8005; Manufacturer: Analog Devices; PartNumber: AD8005ARTZ-REEL7; Amplifiers Per Package: 1; Input Bias Current: 500nA; Input Offset Voltage: 5mV; Iq/Amp: 425uA; Small Signal Bandwidth: 270MHz; V Span Max: 12V; V Span Min: 4V; DatasheetVersion: Rev. A; PackageVersion: 121608-A; PackageReference: RJ-5; PackageDescription: 5-Pin Small Outline Transistor Package, Body 2.9 x 1.6 mm, Pitch 0.95 mm; Supplier 1: Digi-Key; Supplier Part Number 1: AD8005ARTZ-REEL7TR-ND; Supplier 2: Digi-Key; Supplier Part Number 2: AD8005ARTZ-REEL7CT-ND; Supplier 3: Digi-Key; Supplier Part Number 3: AD8005ARTZ-REEL7DKR-ND; Supplier 4: Newark; Supplier Part Number 4: 88H0092; Packing: Reel; Slew Rate: 1.5KV/us; Mounting Technology: Surface Mount; Code_JEDEC: MO-178-AA; ComponentLink1Description: Manufacturer URL; ComponentLink1URL: http://www.analog.com/en/index.html; ComponentLink2Description: Datasheet; ComponentLink2URL: http://www.analog.com/static/imported-files/data_sheets/AD8005.pdf; ComponentLink3Description: Package Specification; ComponentLink3URL: http://www.analog.com/static/imported-files/packages/PKG_PDF/SOT-23(RJ)/RJ_5.pdf
footprint ADI-RJ-5_N (SOT-23, 5-Leads, Body 2.9x1.6mm, Pitch 0.95mm, IPC Medium Density)
footprint ADI-RJ-5_L (SOT-23, 5-Leads, Body 2.9x1.6mm, Pitch 0.95mm, IPC High Density)
footprint ADI-RJ-5_M (SOT-23, 5-Leads, Body 2.9x1.6mm, Pitch 0.95mm, IPC Low Density)
pins: 1 OUT (out), 2 -VS (power), 3 +IN (in), 4 -IN (in), 5 +VS (power)

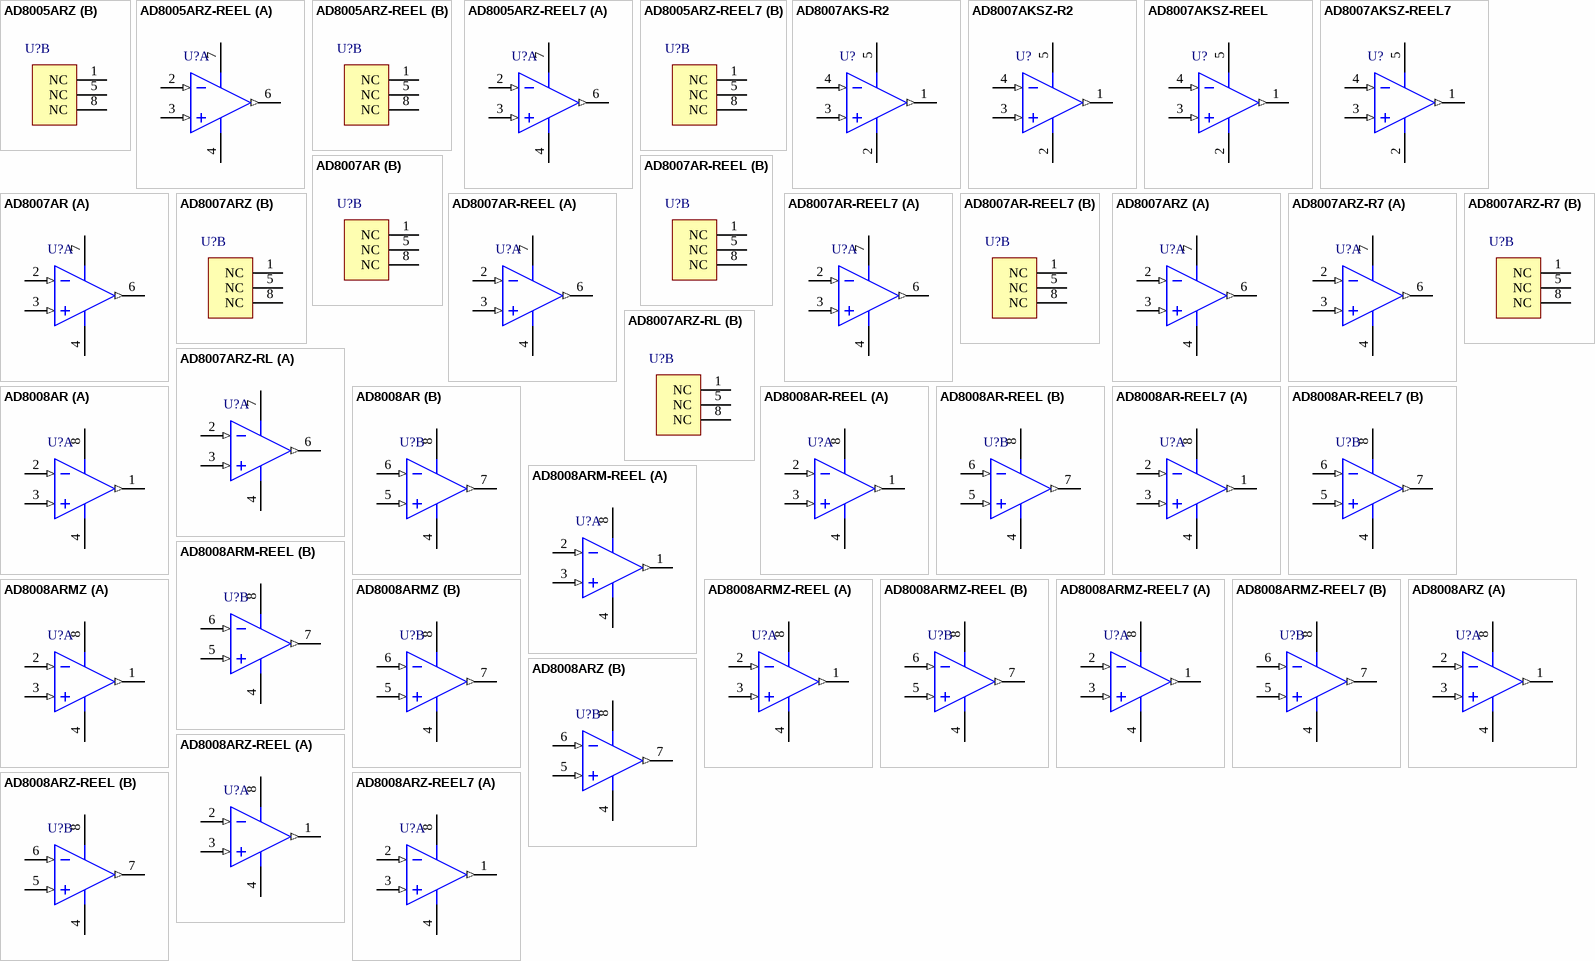
[diagram p17: symbols AD8005ARZ to AD8008ARZ-REEL7]

## AD8005ARZ
designator U?
Single Channel Low Distortion Operational Amplifier, 270 MHz BW, 1.5 KV/us SR, Industrial, 8-pin SOIC (R-8), Tube; Generic Part Number: AD8005; Manufacturer: Analog Devices; PartNumber: AD8005ARZ; Amplifiers Per Package: 1; Input Bias Current: 500nA; Input Offset Voltage: 5mV; Iq/Amp: 425uA; Small Signal Bandwidth: 270MHz; V Span Max: 12V; V Span Min: 4V; DatasheetVersion: Rev. A; PackageVersion: 060506-A; PackageReference: R-8; PackageDescription: 8-Pin Standard Small Outline Package, Body 3.9 x 4.9 mm, Pitch 1.27 mm; Supplier 1: Digi-Key; Supplier Part Number 1: AD8005ARZ-ND; Supplier 2: Newark; Supplier Part Number 2: 59K6151; Packing: Tube; Slew Rate: 1.5KV/us; Mounting Technology: Surface Mount; Code_JEDEC: MS-012-AA; ComponentLink1Description: Manufacturer URL; ComponentLink1URL: http://www.analog.com/en/index.html; ComponentLink2Description: Datasheet; ComponentLink2URL: http://www.analog.com/static/imported-files/data_sheets/AD8005.pdf; ComponentLink3Description: Package Specification; ComponentLink3URL: http://www.analog.com/static/imported-files/packages/PKG_PDF/SOIC_Narrow%20(R)/R_8.pdf
footprint ADI-R-8_N (SOIC, 8-Leads, Body 4.9x3.9mm, Pitch 1.27mm, IPC Medium Density)
footprint ADI-R-8_L (SOIC, 8-Leads, Body 4.9x3.9mm, Pitch 1.27mm, IPC High Density)
footprint ADI-R-8_M (SOIC, 8-Leads, Body 4.9x3.9mm, Pitch 1.27mm, IPC Low Density)
part A pins: 2 -IN (in), 3 +IN (in), 4 -VS (power), 6 OUT (out), 7 +VS (power)
part B pins: 1 NC, 5 NC, 8 NC

## AD8005ARZ-REEL
designator U?
Single Channel Low Distortion Operational Amplifier, 270 MHz BW, 1.5 KV/us SR, Industrial, 8-pin SOIC (R-8), Reel; Generic Part Number: AD8005; Manufacturer: Analog Devices; PartNumber: AD8005ARZ-REEL; Amplifiers Per Package: 1; Input Bias Current: 500nA; Input Offset Voltage: 5mV; Iq/Amp: 425uA; Small Signal Bandwidth: 270MHz; V Span Max: 12V; V Span Min: 4V; DatasheetVersion: Rev. A; PackageVersion: 060506-A; PackageReference: R-8; PackageDescription: 8-Pin Standard Small Outline Package, Body 3.9 x 4.9 mm, Pitch 1.27 mm; Supplier 1: Digi-Key; Supplier Part Number 1: AD8005ARZ-REEL-ND; Packing: Reel; Slew Rate: 1.5KV/us; Mounting Technology: Surface Mount; Code_JEDEC: MS-012-AA; ComponentLink1Description: Manufacturer URL; ComponentLink1URL: http://www.analog.com/en/index.html; ComponentLink2Description: Datasheet; ComponentLink2URL: http://www.analog.com/static/imported-files/data_sheets/AD8005.pdf; ComponentLink3Description: Package Specification; ComponentLink3URL: http://www.analog.com/static/imported-files/packages/PKG_PDF/SOIC_Narrow%20(R)/R_8.pdf
footprint ADI-R-8_N (SOIC, 8-Leads, Body 4.9x3.9mm, Pitch 1.27mm, IPC Medium Density)
footprint ADI-R-8_L (SOIC, 8-Leads, Body 4.9x3.9mm, Pitch 1.27mm, IPC High Density)
footprint ADI-R-8_M (SOIC, 8-Leads, Body 4.9x3.9mm, Pitch 1.27mm, IPC Low Density)
part A pins: 2 -IN (in), 3 +IN (in), 4 -VS (power), 6 OUT (out), 7 +VS (power)
part B pins: 1 NC, 5 NC, 8 NC

## AD8005ARZ-REEL7
designator U?
Single Channel Low Distortion Operational Amplifier, 270 MHz BW, 1.5 KV/us SR, Industrial, 8-pin SOIC (R-8), Reel; Generic Part Number: AD8005; Manufacturer: Analog Devices; PartNumber: AD8005ARZ-REEL7; Amplifiers Per Package: 1; Input Bias Current: 500nA; Input Offset Voltage: 5mV; Iq/Amp: 425uA; Small Signal Bandwidth: 270MHz; V Span Max: 12V; V Span Min: 4V; DatasheetVersion: Rev. A; PackageVersion: 060506-A; PackageReference: R-8; PackageDescription: 8-Pin Standard Small Outline Package, Body 3.9 x 4.9 mm, Pitch 1.27 mm; Supplier 1: Digi-Key; Supplier Part Number 1: AD8005ARZ-REEL7-ND; Packing: Reel; Slew Rate: 1.5KV/us; Mounting Technology: Surface Mount; Code_JEDEC: MS-012-AA; ComponentLink1Description: Manufacturer URL; ComponentLink1URL: http://www.analog.com/en/index.html; ComponentLink2Description: Datasheet; ComponentLink2URL: http://www.analog.com/static/imported-files/data_sheets/AD8005.pdf; ComponentLink3Description: Package Specification; ComponentLink3URL: http://www.analog.com/static/imported-files/packages/PKG_PDF/SOIC_Narrow%20(R)/R_8.pdf
footprint ADI-R-8_N (SOIC, 8-Leads, Body 4.9x3.9mm, Pitch 1.27mm, IPC Medium Density)
footprint ADI-R-8_L (SOIC, 8-Leads, Body 4.9x3.9mm, Pitch 1.27mm, IPC High Density)
footprint ADI-R-8_M (SOIC, 8-Leads, Body 4.9x3.9mm, Pitch 1.27mm, IPC Low Density)
part A pins: 2 -IN (in), 3 +IN (in), 4 -VS (power), 6 OUT (out), 7 +VS (power)
part B pins: 1 NC, 5 NC, 8 NC

## AD8007AKS-R2
designator U?
Single Channel Low Power Operational Amplifier, 650 MHz BW, 1 KV/us SR, Industrial, 5-pin SOT23 (KS-5), Reel; Generic Part Number: AD8007; Manufacturer: Analog Devices; PartNumber: AD8007AKS-R2; Amplifiers Per Package: 1; Input Bias Current: 4uA; Input Offset Voltage: 500uV; Iq/Amp: 10.2mA; Slew Rate: 1KV/us; Small Signal Bandwidth: 650MHz; V Span Max: 12V; V Span Min: 5V; DatasheetVersion: Rev. E; PackageVersion: 072809-A; PackageReference: KS-5; PackageDescription: 5-Pin Thin Shrink Small Outline Transistor Package, Body 2 x 1.25 mm, Pitch 0.65 mm; Mounting Technology: Surface Mount; Code_JEDEC: MO-203-AA; ComponentLink1Description: Manufacturer URL; ComponentLink1URL: http://www.analog.com/en/index.html; ComponentLink2Description: Datasheet; ComponentLink2URL: http://www.analog.com/static/imported-files/data_sheets/AD8007_8008.pdf; ComponentLink3Description: Package Specification; ComponentLink3URL: http://www.analog.com/static/imported-files/packages/PKG_PDF/SC70(KS)/KS_5.pdf
footprint ADI-KS-5_N (SOT23, 5-Leads, Body 2x1.25mm, Pitch 0.65mm, IPC Medium Density)
footprint ADI-KS-5_L (SOT23, 5-Leads, Body 2x1.25mm, Pitch 0.65mm, IPC High Density)
footprint ADI-KS-5_M (SOT23, 5-Leads, Body 2x1.25mm, Pitch 0.65mm, IPC Low Density)
pins: 1 VOUT (out), 2 -VS (power), 3 +IN (in), 4 -IN (in), 5 +VS (power)

## AD8007AKSZ-R2
designator U?
Single Channel Low Power Operational Amplifier, 650 MHz BW, 1 KV/us SR, Industrial, 5-pin SOT23 (KS-5), Reel; Generic Part Number: AD8007; Manufacturer: Analog Devices; PartNumber: AD8007AKSZ-R2; Amplifiers Per Package: 1; Input Bias Current: 4uA; Input Offset Voltage: 500uV; Iq/Amp: 10.2mA; Slew Rate: 1KV/us; Small Signal Bandwidth: 650MHz; V Span Max: 12V; V Span Min: 5V; DatasheetVersion: Rev. E; PackageVersion: 072809-A; PackageReference: KS-5; PackageDescription: 5-Pin Thin Shrink Small Outline Transistor Package, Body 2 x 1.25 mm, Pitch 0.65 mm; Supplier 1: Newark; Supplier Part Number 1: 59K6156; Mounting Technology: Surface Mount; Code_JEDEC: MO-203-AA; ComponentLink1Description: Manufacturer URL; ComponentLink1URL: http://www.analog.com/en/index.html; ComponentLink2Description: Datasheet; ComponentLink2URL: http://www.analog.com/static/imported-files/data_sheets/AD8007_8008.pdf; ComponentLink3Description: Package Specification; ComponentLink3URL: http://www.analog.com/static/imported-files/packages/PKG_PDF/SC70(KS)/KS_5.pdf
footprint ADI-KS-5_N (SOT23, 5-Leads, Body 2x1.25mm, Pitch 0.65mm, IPC Medium Density)
footprint ADI-KS-5_L (SOT23, 5-Leads, Body 2x1.25mm, Pitch 0.65mm, IPC High Density)
footprint ADI-KS-5_M (SOT23, 5-Leads, Body 2x1.25mm, Pitch 0.65mm, IPC Low Density)
pins: 1 VOUT (out), 2 -VS (power), 3 +IN (in), 4 -IN (in), 5 +VS (power)

## AD8007AKSZ-REEL
designator U?
Single Channel Low Power Operational Amplifier, 650 MHz BW, 1 KV/us SR, Industrial, 5-pin SOT23 (KS-5), Reel; Generic Part Number: AD8007; Manufacturer: Analog Devices; PartNumber: AD8007AKSZ-REEL; Amplifiers Per Package: 1; Input Bias Current: 4uA; Input Offset Voltage: 500uV; Iq/Amp: 10.2mA; Slew Rate: 1KV/us; Small Signal Bandwidth: 650MHz; V Span Max: 12V; V Span Min: 5V; DatasheetVersion: Rev. E; PackageVersion: 072809-A; PackageReference: KS-5; PackageDescription: 5-Pin Thin Shrink Small Outline Transistor Package, Body 2 x 1.25 mm, Pitch 0.65 mm; Supplier 1: Digi-Key; Supplier Part Number 1: AD8007AKSZ-REEL-ND; Supplier 2: Newark; Supplier Part Number 2: 59K6154; Mounting Technology: Surface Mount; Code_JEDEC: MO-203-AA; ComponentLink1Description: Manufacturer URL; ComponentLink1URL: http://www.analog.com/en/index.html; ComponentLink2Description: Datasheet; ComponentLink2URL: http://www.analog.com/static/imported-files/data_sheets/AD8007_8008.pdf; ComponentLink3Description: Package Specification; ComponentLink3URL: http://www.analog.com/static/imported-files/packages/PKG_PDF/SC70(KS)/KS_5.pdf
footprint ADI-KS-5_N (SOT23, 5-Leads, Body 2x1.25mm, Pitch 0.65mm, IPC Medium Density)
footprint ADI-KS-5_L (SOT23, 5-Leads, Body 2x1.25mm, Pitch 0.65mm, IPC High Density)
footprint ADI-KS-5_M (SOT23, 5-Leads, Body 2x1.25mm, Pitch 0.65mm, IPC Low Density)
pins: 1 VOUT (out), 2 -VS (power), 3 +IN (in), 4 -IN (in), 5 +VS (power)

## AD8007AKSZ-REEL7
designator U?
Single Channel Low Power Operational Amplifier, 650 MHz BW, 1 KV/us SR, Industrial, 5-pin SOT23 (KS-5), Reel; Generic Part Number: AD8007; Manufacturer: Analog Devices; PartNumber: AD8007AKSZ-REEL7; Amplifiers Per Package: 1; Input Bias Current: 4uA; Input Offset Voltage: 500uV; Iq/Amp: 10.2mA; Slew Rate: 1KV/us; Small Signal Bandwidth: 650MHz; V Span Max: 12V; V Span Min: 5V; DatasheetVersion: Rev. E; PackageVersion: 072809-A; PackageReference: KS-5; PackageDescription: 5-Pin Thin Shrink Small Outline Transistor Package, Body 2 x 1.25 mm, Pitch 0.65 mm; Supplier 1: Digi-Key; Supplier Part Number 1: AD8007AKSZ-REEL7TR-ND; Supplier 2: Digi-Key; Supplier Part Number 2: AD8007AKSZ-REEL7CT-ND; Supplier 3: Digi-Key; Supplier Part Number 3: AD8007AKSZ-REEL7DKR-ND; Supplier 4: Newark; Supplier Part Number 4: 59K6155; Mounting Technology: Surface Mount; Code_JEDEC: MO-203-AA; ComponentLink1Description: Manufacturer URL; ComponentLink1URL: http://www.analog.com/en/index.html; ComponentLink2Description: Datasheet; ComponentLink2URL: http://www.analog.com/static/imported-files/data_sheets/AD8007_8008.pdf; ComponentLink3Description: Package Specification; ComponentLink3URL: http://www.analog.com/static/imported-files/packages/PKG_PDF/SC70(KS)/KS_5.pdf
footprint ADI-KS-5_N (SOT23, 5-Leads, Body 2x1.25mm, Pitch 0.65mm, IPC Medium Density)
footprint ADI-KS-5_L (SOT23, 5-Leads, Body 2x1.25mm, Pitch 0.65mm, IPC High Density)
footprint ADI-KS-5_M (SOT23, 5-Leads, Body 2x1.25mm, Pitch 0.65mm, IPC Low Density)
pins: 1 VOUT (out), 2 -VS (power), 3 +IN (in), 4 -IN (in), 5 +VS (power)

## AD8007AR
designator U?
Single Channel Low Power Operational Amplifier, 650 MHz BW, 1 KV/us SR, Industrial, 8-pin SOIC (R-8), Tube; Generic Part Number: AD8007; Manufacturer: Analog Devices; PartNumber: AD8007AR; Amplifiers Per Package: 1; Input Bias Current: 4uA; Input Offset Voltage: 500uV; Iq/Amp: 10.2mA; Slew Rate: 1KV/us; Small Signal Bandwidth: 650MHz; V Span Max: 12V; V Span Min: 5V; DatasheetVersion: Rev. E; PackageVersion: 060506-A; PackageReference: R-8; PackageDescription: 8-Pin Standard Small Outline Package, Body 3.9 x 4.9 mm, Pitch 1.27 mm; Supplier 1: Digi-Key; Supplier Part Number 1: AD8007AR-ND; Mounting Technology: Surface Mount; Code_JEDEC: MS-012-AA; ComponentLink1Description: Manufacturer URL; ComponentLink1URL: http://www.analog.com/en/index.html; ComponentLink2Description: Datasheet; ComponentLink2URL: http://www.analog.com/static/imported-files/data_sheets/AD8007_8008.pdf; ComponentLink3Description: Package Specification; ComponentLink3URL: http://www.analog.com/static/imported-files/packages/PKG_PDF/SOIC_Narrow%20(R)/R_8.pdf
footprint ADI-R-8_N (SOIC, 8-Leads, Body 4.9x3.9mm, Pitch 1.27mm, IPC Medium Density)
footprint ADI-R-8_L (SOIC, 8-Leads, Body 4.9x3.9mm, Pitch 1.27mm, IPC High Density)
footprint ADI-R-8_M (SOIC, 8-Leads, Body 4.9x3.9mm, Pitch 1.27mm, IPC Low Density)
part A pins: 2 -IN (in), 3 +IN (in), 4 -VS (power), 6 VOUT (out), 7 +VS (power)
part B pins: 1 NC, 5 NC, 8 NC

## AD8007AR-REEL
designator U?
Single Channel Low Power Operational Amplifier, 650 MHz BW, 1 KV/us SR, Industrial, 8-pin SOIC (R-8), Reel; Generic Part Number: AD8007; Manufacturer: Analog Devices; PartNumber: AD8007AR-REEL; Amplifiers Per Package: 1; Input Bias Current: 4uA; Input Offset Voltage: 500uV; Iq/Amp: 10.2mA; Slew Rate: 1KV/us; Small Signal Bandwidth: 650MHz; V Span Max: 12V; V Span Min: 5V; DatasheetVersion: Rev. E; PackageVersion: 060506-A; PackageReference: R-8; PackageDescription: 8-Pin Standard Small Outline Package, Body 3.9 x 4.9 mm, Pitch 1.27 mm; Supplier 1: Digi-Key; Supplier Part Number 1: AD8007AR-REEL-ND; Mounting Technology: Surface Mount; Code_JEDEC: MS-012-AA; ComponentLink1Description: Manufacturer URL; ComponentLink1URL: http://www.analog.com/en/index.html; ComponentLink2Description: Datasheet; ComponentLink2URL: http://www.analog.com/static/imported-files/data_sheets/AD8007_8008.pdf; ComponentLink3Description: Package Specification; ComponentLink3URL: http://www.analog.com/static/imported-files/packages/PKG_PDF/SOIC_Narrow%20(R)/R_8.pdf
footprint ADI-R-8_N (SOIC, 8-Leads, Body 4.9x3.9mm, Pitch 1.27mm, IPC Medium Density)
footprint ADI-R-8_L (SOIC, 8-Leads, Body 4.9x3.9mm, Pitch 1.27mm, IPC High Density)
footprint ADI-R-8_M (SOIC, 8-Leads, Body 4.9x3.9mm, Pitch 1.27mm, IPC Low Density)
part A pins: 2 -IN (in), 3 +IN (in), 4 -VS (power), 6 VOUT (out), 7 +VS (power)
part B pins: 1 NC, 5 NC, 8 NC

## AD8007AR-REEL7
designator U?
Single Channel Low Power Operational Amplifier, 650 MHz BW, 1 KV/us SR, Industrial, 8-pin SOIC (R-8), Reel; Generic Part Number: AD8007; Manufacturer: Analog Devices; PartNumber: AD8007AR-REEL7; Amplifiers Per Package: 1; Input Bias Current: 4uA; Input Offset Voltage: 500uV; Iq/Amp: 10.2mA; Slew Rate: 1KV/us; Small Signal Bandwidth: 650MHz; V Span Max: 12V; V Span Min: 5V; DatasheetVersion: Rev. E; PackageVersion: 060506-A; PackageReference: R-8; PackageDescription: 8-Pin Standard Small Outline Package, Body 3.9 x 4.9 mm, Pitch 1.27 mm; Supplier 1: Digi-Key; Supplier Part Number 1: AD8007AR-REEL7-ND; Supplier 2: Newark; Supplier Part Number 2: 02H1783; Mounting Technology: Surface Mount; Code_JEDEC: MS-012-AA; ComponentLink1Description: Manufacturer URL; ComponentLink1URL: http://www.analog.com/en/index.html; ComponentLink2Description: Datasheet; ComponentLink2URL: http://www.analog.com/static/imported-files/data_sheets/AD8007_8008.pdf; ComponentLink3Description: Package Specification; ComponentLink3URL: http://www.analog.com/static/imported-files/packages/PKG_PDF/SOIC_Narrow%20(R)/R_8.pdf
footprint ADI-R-8_N (SOIC, 8-Leads, Body 4.9x3.9mm, Pitch 1.27mm, IPC Medium Density)
footprint ADI-R-8_L (SOIC, 8-Leads, Body 4.9x3.9mm, Pitch 1.27mm, IPC High Density)
footprint ADI-R-8_M (SOIC, 8-Leads, Body 4.9x3.9mm, Pitch 1.27mm, IPC Low Density)
part A pins: 2 -IN (in), 3 +IN (in), 4 -VS (power), 6 VOUT (out), 7 +VS (power)
part B pins: 1 NC, 5 NC, 8 NC

## AD8007ARZ
designator U?
Single Channel Low Power Operational Amplifier, 650 MHz BW, 1 KV/us SR, Industrial, 8-pin SOIC (R-8), Tube; Generic Part Number: AD8007; Manufacturer: Analog Devices; PartNumber: AD8007ARZ; Amplifiers Per Package: 1; Input Bias Current: 4uA; Input Offset Voltage: 500uV; Iq/Amp: 10.2mA; Slew Rate: 1KV/us; Small Signal Bandwidth: 650MHz; V Span Max: 12V; V Span Min: 5V; DatasheetVersion: Rev. E; PackageVersion: 060506-A; PackageReference: R-8; PackageDescription: 8-Pin Standard Small Outline Package, Body 3.9 x 4.9 mm, Pitch 1.27 mm; Supplier 1: Digi-Key; Supplier Part Number 1: AD8007ARZ-ND; Supplier 2: Farnell; Supplier Part Number 2: 1424012; Supplier 3: Newark; Supplier Part Number 3: 59K6157; Mounting Technology: Surface Mount; Code_JEDEC: MS-012-AA; ComponentLink1Description: Manufacturer URL; ComponentLink1URL: http://www.analog.com/en/index.html; ComponentLink2Description: Datasheet; ComponentLink2URL: http://www.analog.com/static/imported-files/data_sheets/AD8007_8008.pdf; ComponentLink3Description: Package Specification; ComponentLink3URL: http://www.analog.com/static/imported-files/packages/PKG_PDF/SOIC_Narrow%20(R)/R_8.pdf
footprint ADI-R-8_N (SOIC, 8-Leads, Body 4.9x3.9mm, Pitch 1.27mm, IPC Medium Density)
footprint ADI-R-8_L (SOIC, 8-Leads, Body 4.9x3.9mm, Pitch 1.27mm, IPC High Density)
footprint ADI-R-8_M (SOIC, 8-Leads, Body 4.9x3.9mm, Pitch 1.27mm, IPC Low Density)
part A pins: 2 -IN (in), 3 +IN (in), 4 -VS (power), 6 VOUT (out), 7 +VS (power)
part B pins: 1 NC, 5 NC, 8 NC

## AD8007ARZ-R7
designator U?
Single Channel Low Power Operational Amplifier, 650 MHz BW, 1 KV/us SR, Industrial, 8-pin SOIC (R-8), Reel; Generic Part Number: AD8007; Manufacturer: Analog Devices; PartNumber: AD8007ARZ-R7; Amplifiers Per Package: 1; Input Bias Current: 4uA; Input Offset Voltage: 500uV; Iq/Amp: 10.2mA; Slew Rate: 1KV/us; Small Signal Bandwidth: 650MHz; V Span Max: 12V; V Span Min: 5V; DatasheetVersion: Rev. E; PackageVersion: 060506-A; PackageReference: R-8; PackageDescription: 8-Pin Standard Small Outline Package, Body 3.9 x 4.9 mm, Pitch 1.27 mm; Supplier 1: Digi-Key; Supplier Part Number 1: AD8007ARZ-R7-ND; Supplier 2: Newark; Supplier Part Number 2: 59K6159; Mounting Technology: Surface Mount; Code_JEDEC: MS-012-AA; ComponentLink1Description: Manufacturer URL; ComponentLink1URL: http://www.analog.com/en/index.html; ComponentLink2Description: Datasheet; ComponentLink2URL: http://www.analog.com/static/imported-files/data_sheets/AD8007_8008.pdf; ComponentLink3Description: Package Specification; ComponentLink3URL: http://www.analog.com/static/imported-files/packages/PKG_PDF/SOIC_Narrow%20(R)/R_8.pdf
footprint ADI-R-8_N (SOIC, 8-Leads, Body 4.9x3.9mm, Pitch 1.27mm, IPC Medium Density)
footprint ADI-R-8_L (SOIC, 8-Leads, Body 4.9x3.9mm, Pitch 1.27mm, IPC High Density)
footprint ADI-R-8_M (SOIC, 8-Leads, Body 4.9x3.9mm, Pitch 1.27mm, IPC Low Density)
part A pins: 2 -IN (in), 3 +IN (in), 4 -VS (power), 6 VOUT (out), 7 +VS (power)
part B pins: 1 NC, 5 NC, 8 NC

## AD8007ARZ-RL
designator U?
Single Channel Low Power Operational Amplifier, 650 MHz BW, 1 KV/us SR, Industrial, 8-pin SOIC (R-8), Reel; Generic Part Number: AD8007; Manufacturer: Analog Devices; PartNumber: AD8007ARZ-RL; Amplifiers Per Package: 1; Input Bias Current: 4uA; Input Offset Voltage: 500uV; Iq/Amp: 10.2mA; Slew Rate: 1KV/us; Small Signal Bandwidth: 650MHz; V Span Max: 12V; V Span Min: 5V; DatasheetVersion: Rev. E; PackageVersion: 060506-A; PackageReference: R-8; PackageDescription: 8-Pin Standard Small Outline Package, Body 3.9 x 4.9 mm, Pitch 1.27 mm; Supplier 1: Digi-Key; Supplier Part Number 1: AD8007ARZ-RL-ND; Mounting Technology: Surface Mount; Code_JEDEC: MS-012-AA; ComponentLink1Description: Manufacturer URL; ComponentLink1URL: http://www.analog.com/en/index.html; ComponentLink2Description: Datasheet; ComponentLink2URL: http://www.analog.com/static/imported-files/data_sheets/AD8007_8008.pdf; ComponentLink3Description: Package Specification; ComponentLink3URL: http://www.analog.com/static/imported-files/packages/PKG_PDF/SOIC_Narrow%20(R)/R_8.pdf
footprint ADI-R-8_N (SOIC, 8-Leads, Body 4.9x3.9mm, Pitch 1.27mm, IPC Medium Density)
footprint ADI-R-8_L (SOIC, 8-Leads, Body 4.9x3.9mm, Pitch 1.27mm, IPC High Density)
footprint ADI-R-8_M (SOIC, 8-Leads, Body 4.9x3.9mm, Pitch 1.27mm, IPC Low Density)
part A pins: 2 -IN (in), 3 +IN (in), 4 -VS (power), 6 VOUT (out), 7 +VS (power)
part B pins: 1 NC, 5 NC, 8 NC